# Altium footprint library KF-2.54 接线端子.PcbLib: 30 footprints (part 2 of 2)
Each footprint in its own frame and in the unit in brackets; x right, y up, seen from the top. Pads: shape width x height; smd on the part's side, far side on the other; paste and mask are expansions set on the pad; w line width, h text height; cw(c..) or ccw(c..) is an arc to the next point about the centre after c.
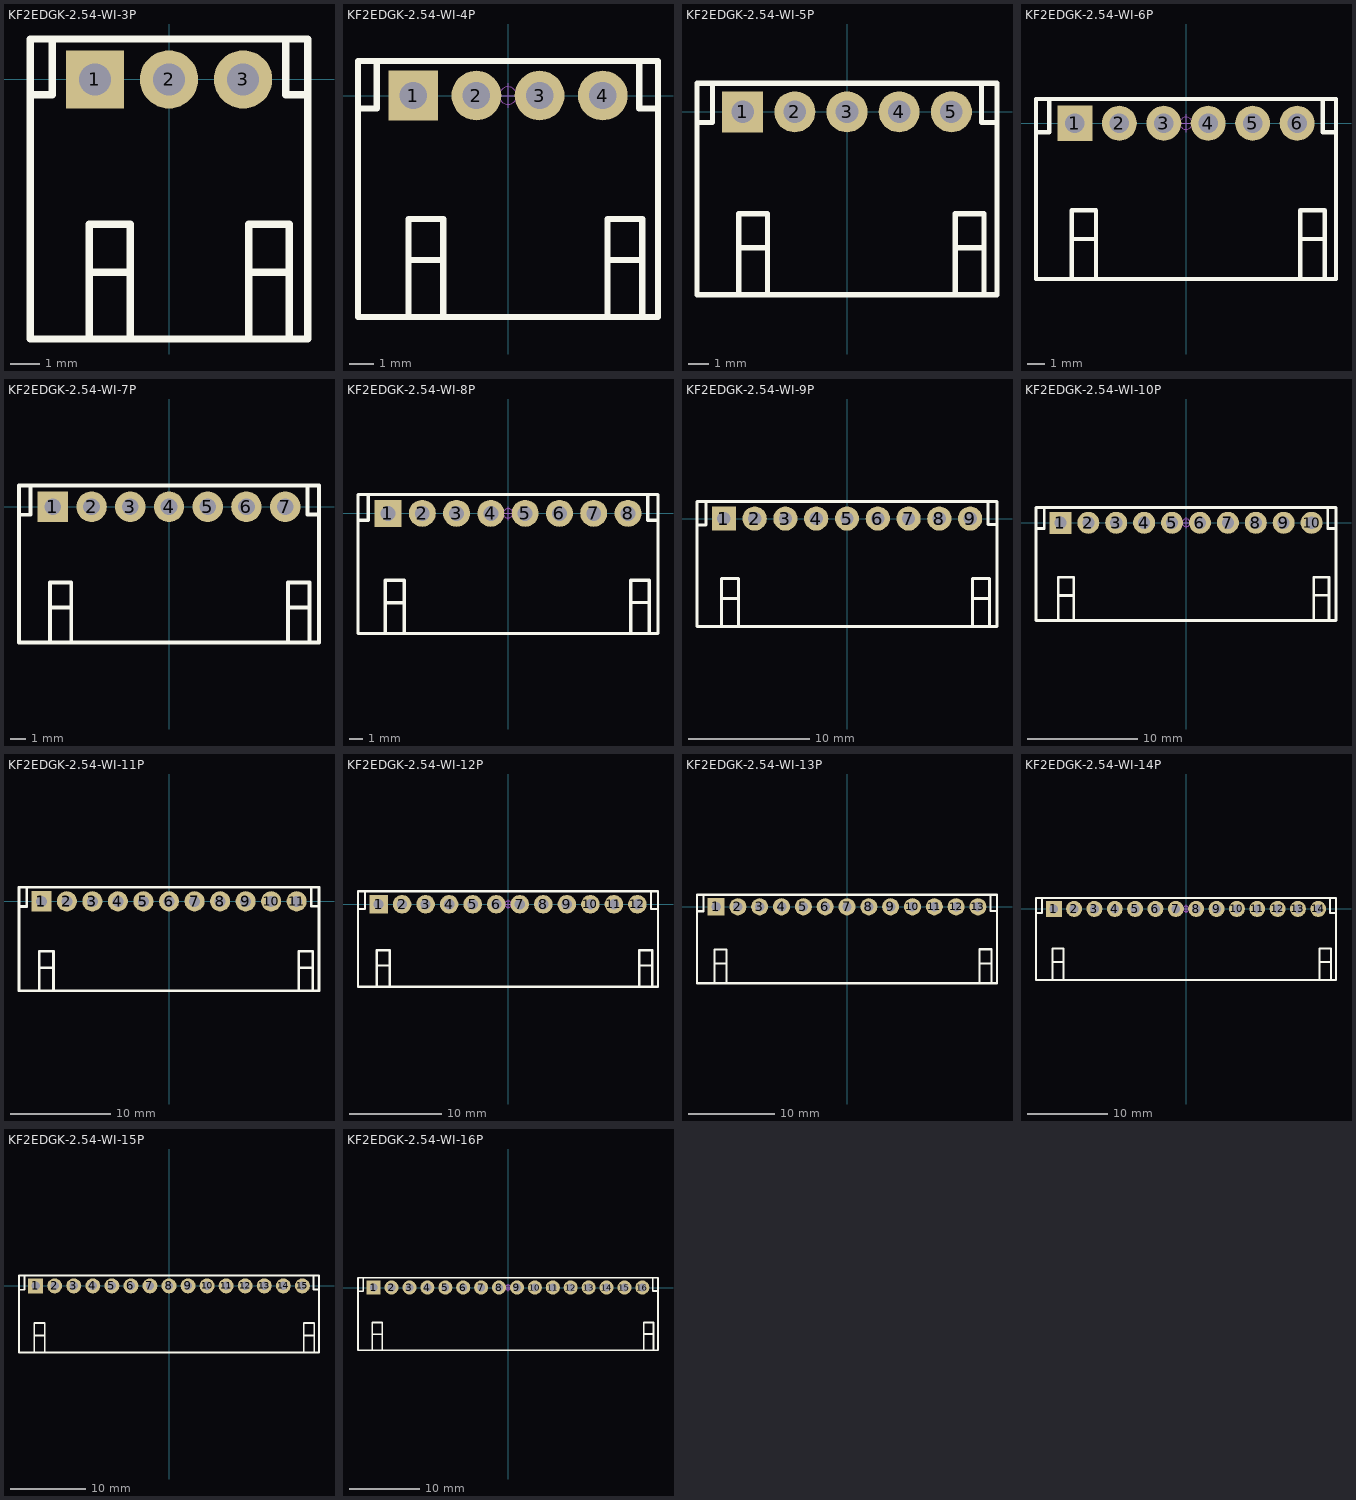
[diagram p1: the footprints below, top view; thin cyan lines are the x and y axes]

## KF2EDGK-2.54-WI-3P [mm] "长：9.52mm，宽：10.1mm，高：8.1mm"
pads (3):
  rect 2x2 hole 1.1: 1(-2.54,0)
  round 2 hole 1.1: 2(0,0) 3(2.54,0)
Top Overlay:
  lines w0.254: -4.76,-0.518 -4.003,-0.518 -4.003,1.387 ; -2.728,-8.9 -2.728,-4.963 -1.331,-4.963 -1.331,-8.9 ; -2.728,-6.614 -1.331,-6.614 ; 2.728,-8.9 2.728,-4.963 4.125,-4.963 4.125,-8.9 ; 2.728,-6.614 4.125,-6.614 ; 4.003,1.387 4.003,-0.518 4.76,-0.518 ; -4.76,-8.9 -4.76,1.387 4.76,1.387 4.76,-8.9 -4.76,-8.9
Mechanical 15:
  circle w0.05: c0,0 r0.35
  lines w0.05: -0.5,0 0.5,0 ; 0,-0.5 0,0.5
3D body: height 8.15, standoff -3.25, extent -4.76,-8.9 4.76,1.2

## KF2EDGK-2.54-WI-4P [mm] "长：12.06mm，宽：10.1mm，高：8.1mm"
pads (4):
  rect 2x2 hole 1.1: 1(-3.81,0)
  round 2 hole 1.1: 2(-1.27,0) 3(1.27,0) 4(3.81,0)
Top Overlay:
  lines w0.254: -6.03,-0.518 -5.273,-0.518 -5.273,1.387 ; -3.998,-8.9 -3.998,-4.963 -2.601,-4.963 -2.601,-8.9 ; -3.998,-6.614 -2.601,-6.614 ; 3.998,-8.9 3.998,-4.963 5.395,-4.963 5.395,-8.9 ; 3.998,-6.614 5.395,-6.614 ; 5.273,1.387 5.273,-0.518 6.03,-0.518 ; -6.03,-8.9 -6.03,1.387 6.03,1.387 6.03,-8.9 -6.03,-8.9
Mechanical 15:
  circle w0.05: c0,0 r0.35
  lines w0.05: -0.5,0 0.5,0 ; 0,-0.5 0,0.5
3D body: height 8.15, standoff -3.25, extent -6.03,-8.9 6.03,1.2

## KF2EDGK-2.54-WI-5P [mm] "长：14.6mm，宽：10.1mm，高：8.1mm"
pads (5):
  rect 2x2 hole 1.1: 1(-5.08,0)
  round 2 hole 1.1: 2(-2.54,0) 3(0,0) 4(2.54,0) 5(5.08,0)
Top Overlay:
  lines w0.254: -7.3,-0.518 -6.543,-0.518 -6.543,1.387 ; -5.268,-8.9 -5.268,-4.963 -3.871,-4.963 -3.871,-8.9 ; -5.268,-6.614 -3.871,-6.614 ; 5.268,-8.9 5.268,-4.963 6.665,-4.963 6.665,-8.9 ; 5.268,-6.614 6.665,-6.614 ; 6.543,1.387 6.543,-0.518 7.3,-0.518 ; -7.3,-8.9 -7.3,1.387 7.3,1.387 7.3,-8.9 -7.3,-8.9
Mechanical 15:
  circle w0.05: c0,0 r0.35
  lines w0.05: -0.5,0 0.5,0 ; 0,-0.5 0,0.5
3D body: height 8.15, standoff -3.25, extent -7.3,-8.9 7.3,1.2

## KF2EDGK-2.54-WI-6P [mm] "长：17.1mm，宽：10.1mm，高：8.1mm"
pads (6):
  rect 2x2 hole 1.1: 1(-6.35,0.01)
  round 2 hole 1.1: 2(-3.81,0.01) 3(-1.27,0.01) 4(1.27,0.01) 5(3.81,0.01) 6(6.35,0.01)
Top Overlay:
  lines w0.254: -8.57,-0.508 -7.813,-0.508 -7.813,1.397 ; -6.538,-8.89 -6.538,-4.953 -5.141,-4.953 -5.141,-8.89 ; -6.538,-6.604 -5.141,-6.604 ; 6.538,-8.89 6.538,-4.953 7.935,-4.953 7.935,-8.89 ; 6.538,-6.604 7.935,-6.604 ; 7.813,1.397 7.813,-0.508 8.57,-0.508 ; -8.57,-8.89 -8.57,1.397 8.57,1.397 8.57,-8.89 -8.57,-8.89
Mechanical 15:
  circle w0.05: c0,0.01 r0.35
  lines w0.05: -0.5,0.01 0.5,0.01 ; 0,-0.49 0,0.51
3D body: height 8.15, standoff -3.25, extent -8.57,-8.89 8.57,1.21

## KF2EDGK-2.54-WI-7P [mm] "长：22.22mm，宽：10.1mm，高：8.1mm"
pads (7):
  rect 2x2 hole 1.1: 1(-7.62,0)
  round 2 hole 1.1: 2(-5.08,0) 3(-2.54,0) 4(0,0) 5(2.54,0) 6(5.08,0) 7(7.62,0)
Top Overlay:
  lines w0.254: -9.84,-0.518 -9.083,-0.518 -9.083,1.387 ; -9.84,1.387 -9.84,-8.9 9.84,-8.9 ; -9.84,1.397 9.84,1.397 9.84,-8.89 ; -7.808,-8.9 -7.808,-4.963 -6.411,-4.963 -6.411,-8.9 ; -7.808,-6.614 -6.411,-6.614 ; 7.808,-8.89 7.808,-4.953 9.205,-4.953 9.205,-8.89 ; 7.808,-6.604 9.205,-6.604 ; 9.083,1.397 9.083,-0.508 9.84,-0.508
Mechanical 15:
  circle w0.05: c0,0 r0.35
  lines w0.05: -0.5,0 0.5,0 ; 0,-0.5 0,0.5
3D body: height 8.15, standoff -3.25, extent -9.84,-8.9 9.84,1.2

## KF2EDGK-2.54-WI-8P [mm] "长：22.22mm，宽：10.1mm，高：8.1mm"
pads (8):
  rect 2x2 hole 1.1: 1(-8.89,0)
  round 2 hole 1.1: 2(-6.35,0) 3(-3.81,0) 4(-1.27,0) 5(1.27,0) 6(3.81,0) 7(6.35,0) 8(8.89,0)
Top Overlay:
  lines w0.254: -11.11,-0.518 -10.353,-0.518 -10.353,1.387 ; -11.11,1.387 -11.11,-8.9 11.11,-8.9 ; -11.11,1.397 11.11,1.397 11.11,-8.89 ; -9.078,-8.9 -9.078,-4.963 -7.681,-4.963 -7.681,-8.9 ; -9.078,-6.614 -7.681,-6.614 ; 9.078,-8.89 9.078,-4.953 10.475,-4.953 10.475,-8.89 ; 9.078,-6.604 10.475,-6.604 ; 10.353,1.397 10.353,-0.508 11.11,-0.508
Mechanical 15:
  circle w0.05: c0,0 r0.35
  lines w0.05: -0.5,0 0.5,0 ; 0,-0.5 0,0.5
3D body: height 8.15, standoff -3.25, extent -11.11,-8.9 11.11,1.2

## KF2EDGK-2.54-WI-9P [mm] "长：27.76mm，宽：10.1mm，高：8.1mm"
pads (9):
  rect 2x2 hole 1.1: 1(-10.16,0)
  round 2 hole 1.1: 2(-7.62,0) 3(-5.08,0) 4(-2.54,0) 5(0,0) 6(2.54,0) 7(5.08,0) 8(7.62,0) 9(10.16,0)
Top Overlay:
  lines w0.254: -12.38,-0.518 -11.623,-0.518 -11.623,1.387 ; -12.38,1.387 -12.38,-8.9 12.38,-8.9 ; -12.38,1.397 12.38,1.397 12.38,-8.89 ; -10.348,-8.9 -10.348,-4.963 -8.951,-4.963 -8.951,-8.9 ; -10.348,-6.614 -8.951,-6.614 ; 10.348,-8.89 10.348,-4.953 11.745,-4.953 11.745,-8.89 ; 10.348,-6.604 11.745,-6.604 ; 11.623,1.397 11.623,-0.508 12.38,-0.508
Mechanical 15:
  circle w0.05: c0,0 r0.35
  lines w0.05: -0.5,0 0.5,0 ; 0,-0.5 0,0.5
3D body: height 8.15, standoff -3.25, extent -12.38,-8.9 12.38,1.2

## KF2EDGK-2.54-WI-10P [mm] "长：27.3mm，宽：10.1mm，高：8.1mm"
pads (10):
  rect 2x2 hole 1.1: 1(-11.43,0)
  round 2 hole 1.1: 2(-8.89,0) 3(-6.35,0) 4(-3.81,0) 5(-1.27,0) 6(1.27,0) 7(3.81,0) 8(6.35,0) 9(8.89,0) 10(11.43,0)
Top Overlay:
  lines w0.254: -13.65,-0.518 -12.893,-0.518 -12.893,1.387 ; -13.65,1.387 -13.65,-8.9 13.65,-8.9 ; -13.65,1.397 13.65,1.397 13.65,-8.89 ; -11.618,-8.9 -11.618,-4.963 -10.221,-4.963 -10.221,-8.9 ; -11.618,-6.614 -10.221,-6.614 ; 11.618,-8.89 11.618,-4.953 13.015,-4.953 13.015,-8.89 ; 11.618,-6.604 13.015,-6.604 ; 12.893,1.397 12.893,-0.508 13.65,-0.508
Mechanical 15:
  circle w0.05: c0,0 r0.35
  lines w0.05: -0.5,0 0.5,0 ; 0,-0.5 0,0.5
3D body: height 8.15, standoff -3.25, extent -13.65,-8.9 13.65,1.2

## KF2EDGK-2.54-WI-11P [mm] "长：29.84mm，宽：10.1mm，高：8.1mm"
pads (11):
  rect 2x2 hole 1.1: 1(-12.7,0)
  round 2 hole 1.1: 2(-10.16,0) 3(-7.62,0) 4(-5.08,0) 5(-2.54,0) 6(0,0) 7(2.54,0) 8(5.08,0) 9(7.62,0) 10(10.16,0) 11(12.7,0)
Top Overlay:
  lines w0.254: -14.92,-0.518 -14.163,-0.518 -14.163,1.387 ; -14.92,1.387 -14.92,-8.9 14.92,-8.9 ; -14.92,1.397 14.92,1.397 14.92,-8.89 ; -12.888,-8.9 -12.888,-4.963 -11.491,-4.963 -11.491,-8.9 ; -12.888,-6.614 -11.491,-6.614 ; 12.888,-8.89 12.888,-4.953 14.285,-4.953 14.285,-8.89 ; 12.888,-6.604 14.285,-6.604 ; 14.163,1.397 14.163,-0.508 14.92,-0.508
Mechanical 15:
  circle w0.05: c0,0 r0.35
  lines w0.05: -0.5,0 0.5,0 ; 0,-0.5 0,0.5
3D body: height 8.15, standoff -3.25, extent -14.92,-8.9 14.92,1.2

## KF2EDGK-2.54-WI-12P [mm] "长：32.38mm，宽：10.1mm，高：8.1mm"
pads (12):
  rect 2x2 hole 1.1: 1(-13.97,0)
  round 2 hole 1.1: 2(-11.43,0) 3(-8.89,0) 4(-6.35,0) 5(-3.81,0) 6(-1.27,0) 7(1.27,0) 8(3.81,0) 9(6.35,0) 10(8.89,0) 11(11.43,0) 12(13.97,0)
Top Overlay:
  lines w0.254: -16.19,-0.518 -15.433,-0.518 -15.433,1.387 ; -16.19,1.387 -16.19,-8.9 16.19,-8.9 ; -16.19,1.397 16.19,1.397 16.19,-8.89 ; -14.158,-8.9 -14.158,-4.963 -12.761,-4.963 -12.761,-8.9 ; -14.158,-6.614 -12.761,-6.614 ; 14.158,-8.89 14.158,-4.953 15.555,-4.953 15.555,-8.89 ; 14.158,-6.604 15.555,-6.604 ; 15.433,1.397 15.433,-0.508 16.19,-0.508
Mechanical 15:
  circle w0.05: c0,0 r0.35
  lines w0.05: -0.5,0 0.5,0 ; 0,-0.5 0,0.5
3D body: height 8.15, standoff -3.25, extent -16.19,-8.9 16.19,1.2

## KF2EDGK-2.54-WI-13P [mm] "长：34.92mm，宽：10.1mm，高：8.1mm"
pads (13):
  rect 2x2 hole 1.1: 1(-15.24,0)
  round 2 hole 1.1: 2(-12.7,0) 3(-10.16,0) 4(-7.62,0) 5(-5.08,0) 6(-2.54,0) 7(0,0) 8(2.54,0) 9(5.08,0) 10(7.62,0) 11(10.16,0) 12(12.7,0) 13(15.24,0)
Top Overlay:
  lines w0.254: -17.46,-0.518 -16.703,-0.518 -16.703,1.387 ; -15.428,-8.9 -15.428,-4.963 -14.031,-4.963 -14.031,-8.9 ; -15.428,-6.614 -14.031,-6.614 ; 15.428,-8.89 15.428,-4.953 16.825,-4.953 16.825,-8.89 ; 15.428,-6.604 16.825,-6.604 ; 16.703,1.397 16.703,-0.508 17.46,-0.508 ; -17.46,-8.9 17.46,-8.9 17.46,-8.89 17.46,1.397 -17.46,1.397 -17.46,1.387 -17.46,-8.9
Mechanical 15:
  circle w0.05: c0,0 r0.35
  lines w0.05: -0.5,0 0.5,0 ; 0,-0.5 0,0.5
3D body: height 8.15, standoff -3.25, extent -17.46,-8.9 17.46,1.2

## KF2EDGK-2.54-WI-14P [mm] "长：37.46mm，宽：10.1mm，高：8.1mm"
pads (14):
  rect 2x2 hole 1.1: 1(-16.51,0)
  round 2 hole 1.1: 2(-13.97,0) 3(-11.43,0) 4(-8.89,0) 5(-6.35,0) 6(-3.81,0) 7(-1.27,0) 8(1.27,0) 9(3.81,0) 10(6.35,0) 11(8.89,0) 12(11.43,0) 13(13.97,0) 14(16.51,0)
Top Overlay:
  lines w0.254: -18.73,-0.518 -17.973,-0.518 -17.973,1.387 ; -16.698,-8.9 -16.698,-4.963 -15.301,-4.963 -15.301,-8.9 ; -16.698,-6.614 -15.301,-6.614 ; 16.698,-8.89 16.698,-4.953 18.095,-4.953 18.095,-8.89 ; 16.698,-6.604 18.095,-6.604 ; 17.973,1.397 17.973,-0.508 18.73,-0.508 ; -18.73,-8.9 -18.73,1.387 -18.73,1.397 18.73,1.397 18.73,-8.89 18.73,-8.9 -18.73,-8.9
Mechanical 15:
  circle w0.05: c0,0 r0.35
  lines w0.05: -0.5,0 0.5,0 ; 0,-0.5 0,0.5
3D body: height 8.15, standoff -3.25, extent -18.73,-8.9 18.73,1.2

## KF2EDGK-2.54-WI-15P [mm] "长：40mm，宽：10.1mm，高：8.1mm"
pads (15):
  rect 2x2 hole 1.1: 1(-17.78,0)
  round 2 hole 1.1: 2(-15.24,0) 3(-12.7,0) 4(-10.16,0) 5(-7.62,0) 6(-5.08,0) 7(-2.54,0) 8(0,0) 9(2.54,0) 10(5.08,0) 11(7.62,0) 12(10.16,0) 13(12.7,0) 14(15.24,0) 15(17.78,0)
Top Overlay:
  lines w0.254: -20,-0.518 -19.243,-0.518 -19.243,1.387 ; -20,1.387 -20,-8.9 20,-8.9 20,-8.89 20,1.397 -20,1.397 ; -17.968,-8.9 -17.968,-4.963 -16.571,-4.963 -16.571,-8.9 ; -17.968,-6.614 -16.571,-6.614 ; 17.968,-8.89 17.968,-4.953 19.365,-4.953 19.365,-8.89 ; 17.968,-6.604 19.365,-6.604 ; 19.243,1.397 19.243,-0.508 20,-0.508
Mechanical 15:
  circle w0.05: c0,0 r0.35
  lines w0.05: -0.5,0 0.5,0 ; 0,-0.5 0,0.5
3D body: height 8.15, standoff -3.25, extent -20,-8.9 20,1.2

## KF2EDGK-2.54-WI-16P [mm] "长：42.54mm，宽：10.1mm，高：8.1mm"
pads (16):
  rect 2x2 hole 1.1: 1(-19.05,0)
  round 2 hole 1.1: 2(-16.51,0) 3(-13.97,0) 4(-11.43,0) 5(-8.89,0) 6(-6.35,0) 7(-3.81,0) 8(-1.27,0) 9(1.27,0) 10(3.81,0) 11(6.35,0) 12(8.89,0) 13(11.43,0) 14(13.97,0) 15(16.51,0) 16(19.05,0)
Top Overlay:
  lines w0.254: -21.27,-0.518 -20.513,-0.518 -20.513,1.387 ; -19.238,-8.9 -19.238,-4.963 -17.841,-4.963 -17.841,-8.9 ; -19.238,-6.614 -17.841,-6.614 ; 19.238,-8.89 19.238,-4.953 20.635,-4.953 20.635,-8.89 ; 19.238,-6.604 20.635,-6.604 ; 20.513,1.397 20.513,-0.508 21.27,-0.508 ; 21.27,1.387 -21.27,1.387 -21.27,-8.9 21.27,-8.9 21.27,1.397
Mechanical 15:
  circle w0.05: c0,0 r0.35
  lines w0.05: -0.5,0 0.5,0 ; 0,-0.5 0,0.5
3D body: height 8.15, standoff -3.25, extent -21.27,-8.9 21.27,1.2